# Altium footprint library FB_1206.PcbLib: 1 footprints
Each footprint in its own frame and in the unit in brackets; x right, y up, seen from the top. Pads: shape width x height; smd on the part's side, far side on the other; paste and mask are expansions set on the pad; w line width, h text height; cw(c..) or ccw(c..) is an arc to the next point about the centre after c.
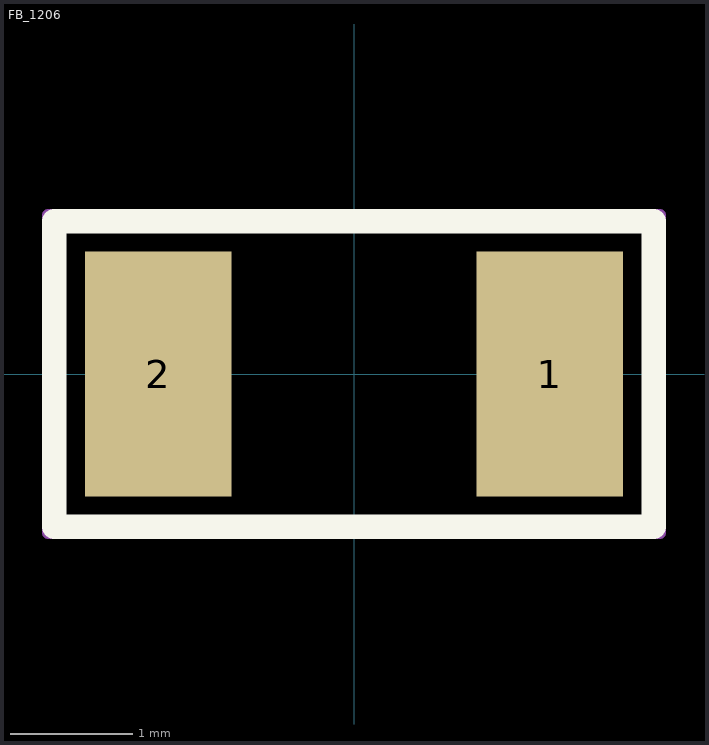
[diagram p0: the footprint, top view; thin cyan lines are the x and y axes]

## FB_1206 [mm]
pads (2):
  rect 1.2x2 smd: 1(1.6,0) 2(-1.6,0)
Top Overlay:
  lines w0.2: -2.45,-1.25 2.45,-1.25 2.45,1.25 -2.45,1.25 -2.45,-1.25
Top Courtyard:
  lines w0.1: -2.5,-1.3 -2.5,1.3 2.5,1.3 2.5,-1.3 -2.5,-1.3
3D body "1206_782126x.stp": height 1.1, standoff 0, extent -1.6,-0.8 1.6,0.8